# EAGLE library part TCC1014A(GIME)_HDR (library coco)
TCC1014A - http://www.GIMEchip.com/ TCC1014 & TCC1014A G.I.M.E./A.C.V.C. E.A.G.L.E. Library Part created by J&R - sales@gimechip.com <mailto:sales@gimechip.com?subject=TCC1014 & TCC1014A G.I.M.E./A.C.V.C. E.A.G.L.E. Library Part> 68-Pin PLCC, TCC1014 (VC2645QC) Graphics Interrupt Memory Enhancement Advanced Color Video Chip System Timing, Address Multiplex, Device Select, MMU A central component in the Color Computer 3 is the Advanced Color Video Chip (IC6). This chip provides refresh and address multiplexing for the RAM. It also provides all of the system timing and device selection. ACVC comprises the VDG (Video Display Generator) function which supports High-Resolution mode, in addition to all other modes included in the Color Computer 2. During High-Resolution mode, it generates 40 x 24 or 80 x 24 text screen, and 320 x 192 or 640 x 192 graphics screen. It is also designed to output two different video signals - composite video and analog RGB. ACVC can expand memory space up to 512K bytes. Having a built-in MMU (Memory Management Unit), it can support 2 banks of 256K-byte RAM, each with a 9-line address bus, even though the CPU possesses only 16 address lines. Controlling DRAMs is a fairly complex task. In the Color Computer 3, it is done by the TCC1014 (VC2645QC: ACVC). In addition to address multiplexing, RAS* and CAS* generation, WE0*, WE1* timing control, and refresh generation, the ACVC performs other tasks. It contains the Master Oscillator, the frequency of which is controlled by a 28.63636 MHz (PAL: 28.4750 MHz) crystal (X1). The Master Oscillator is divided by eight to give a 3.579545 MHz color reference signal to the Video Display Generator LOGIC and Composite Video Signal (NTSC version only). This reference signal is then divided by 4 (or 2) again to provide the 0.89 MHz (1.78 MHz) E and Q clock signals for the processor. In the PAL version, the Master Oscillator frequency is slightly shifted down than in the NTSC version for fitting with the PAL encoder circuit. The ACVC (IC6) also controls access to the memory, granting access to the processor during the high time of E (CPU portion) and access to the VDG LOGIC during the low time of E (Video portion). During each access, whether by the CPU or the Video, the ACVC must provide appropriately synchronized RAS* and CAS* signals, as well as the corresponding address signals, to the DRAMs. Note that the DRAM access time must be twice as fast as that required by the CPU alone in order to be able to respond to VDG accesses. In order for the ACVC chip to provide the appropriate addresses to the DRAMs, all 16 CPU address lines are input to the ACVC. It then multiplexes these into low order and high order addresses (Z0 through Z8, refer to MMU) which are sent to the DRAMs along with RAS* and CAS*. Another function of this section is to provide address decoding and device selection for the computer. S0, S1, and S2 are connected to IC9, a 74LS138, in order to provide appropriate signals to enable ROM selection, PIA selection, and various cartridge selection signals. Due to the nature of the ROMs and in order to prevent data bus contention, the ROMs are enabled only during the E portion of a read cycle. The memory area of the CoCo3 is from &00000 through &7FFFF (512K bytes). The Memory Management Unit (MMU) inside of the TCC1014, pins FFA0 through FFAF, selects A13 - A18 (actually A16 - A18). The ACVC is designed to output both composite video signal and analog RGB signal. ACVC also contains analog RGB output and a total of 64 color selections. Memory Management Unit (MMU) XFFA0 - XFFAF, 6 bits The 8-bit CPU in the Color Computer 3 can directly access only 64K bytes of memory with its 16 address lines (A0 - A15). The memory management unit (MMU) extends the address lines to 19 (A0 - A18). This allows the computer to address up to 512K bytes of memory ($00000 - $7FFFF). The MMU consists of a multiplexer and a 16 x 6-bit of RAM array. Each of the 6-bit elements in this RAM array is an MMU task register, and the task registers are used by the computer to determine the proper 8K segment of memory to address. These registers are divided into 2 sets, 8 registers per set. The TR bit of FF91 (task register select bit) determines which set is selected. The relationship between the data in the task register and the generated address is as follows: Bit D5 D4 D3 D2 D1 D0 Corresponding memory address A18 A17 A16 A15 A14 A13 When the CPU needs to access memory outside the standard I/O and control range (XFF00 - XFFFF), CPU address lines A13 - A15 and the TR bit determine the address of the task register which the MMU will access while SELECT is low. When the CPU writes data to the MMU, A0 - A3 determine the address of the task register to be written to when SELECT goes high. The data from the MMU is then used as the upper 6 address lines (A13 - A18) for memory access, according to the following: TR A15 A14 A13 (Address range) MMU location address 0 0 0 0 X0000 - X1FFF FFA0 0 0 0 1 X2000 - X3FFF FFA1 0 0 1 0 X4000 - X5FFF FFA2 0 0 1 1 X6000 - X7FFF FFA3 0 1 0 0 X8000 - X9FFF FFA4 0 1 0 1 XA000 - XBFFF FFA5 0 1 1 0 XC000 - XDFFF FFA6 0 1 1 1 XE000 - XFFFF FFA7 1 0 0 0 X0000 - X1FFF FFA8 1 0 0 1 X2000 - X3FFF FFA9 1 0 1 0 X4000 - X5FFF FFAA 1 0 1 1 X6000 - X7FFF FFAB 1 1 0 0 X8000 - X9FFF FFAC 1 1 0 1 XA000 - XBFFF FFAD 1 1 1 0 XC000 - XDFFF FFAE 1 1 1 1 XE000 - XFFFF FFAF It is important to note that, in order for the MMU to function, the CoCo bit of FF90 must be cleared, and the M/P bit of FF90 must be set. Prior to doing this, the desired addressing information for each segment must be loaded into the designated set of task registers.
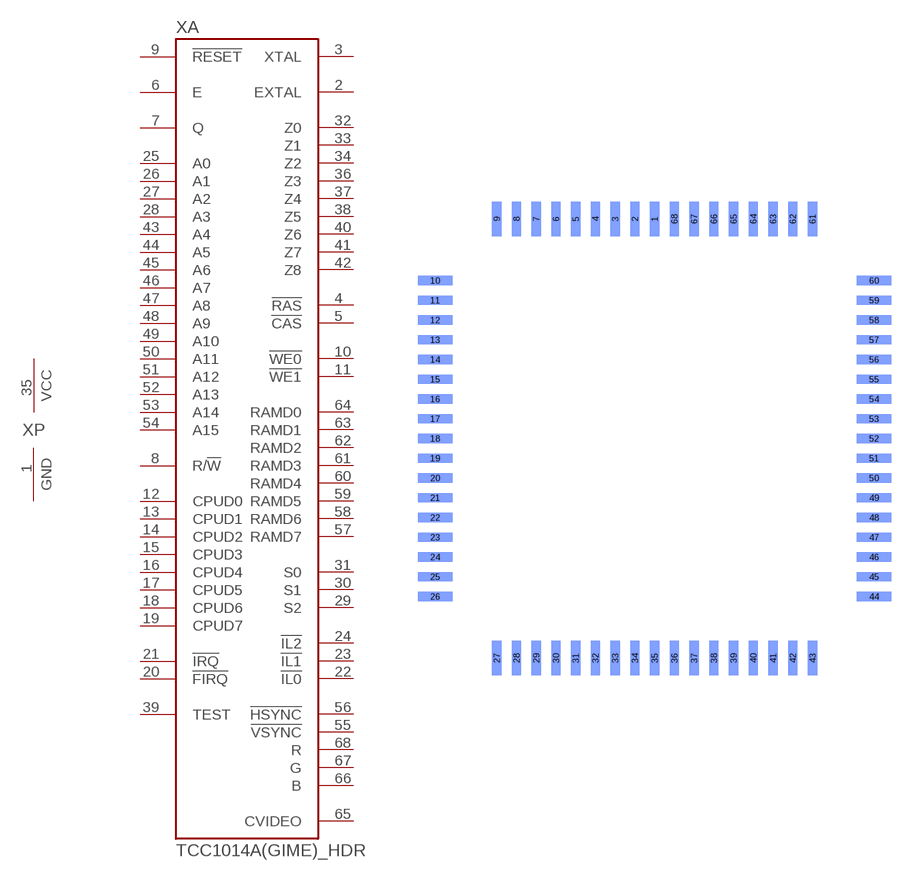
[diagram p2: symbol with the pads of PLCC68-HDR; footprint PLCC68-HDR]

Designator prefix X; gates A=TCC1014A_HDR P=PWR-GND

## TCC1014A(GIME)_HDR  [PLCC68-HDR]
1  P:GND  pwr
2  A:EXTAL  pas
3  A:XTAL  pas
4  A:!RAS  in
5  A:!CAS  in
6  A:E
7  A:Q
8  A:R/!W  out
9  A:!RESET
10  A:!WE0  in
11  A:!WE1  in
12  A:CPUD0
13  A:CPUD1
14  A:CPUD2
15  A:CPUD3
16  A:CPUD4
17  A:CPUD5
18  A:CPUD6
19  A:CPUD7
20  A:!FIRQ  oc
21  A:!IRQ  oc
22  A:!IL0  out
23  A:!IL1  out
24  A:!IL2  out
25  A:A0  in
26  A:A1  in
27  A:A2  in
28  A:A3  in
29  A:S2  in
30  A:S1  in
31  A:S0  in
32  A:Z0  in
33  A:Z1  in
34  A:Z2  in
35  P:VCC  pwr
36  A:Z3  in
37  A:Z4  in
38  A:Z5  in
39  A:TEST  pas
40  A:Z6  in
41  A:Z7  in
42  A:Z8  in
43  A:A4  in
44  A:A5  in
45  A:A6  in
46  A:A7  in
47  A:A8  in
48  A:A9  in
49  A:A10  in
50  A:A11  in
51  A:A12  in
52  A:A13  in
53  A:A14  in
54  A:A15  in
55  A:!VSYNC  in
56  A:!HSYNC  in
57  A:RAMD7
58  A:RAMD6
59  A:RAMD5
60  A:RAMD4
61  A:RAMD3
62  A:RAMD2
63  A:RAMD1
64  A:RAMD0
65  A:CVIDEO  in
66  A:B  in
67  A:G  in
68  A:R  in

## Footprint PLCC68-HDR (pad centres in mm)
Plastic J-Lead Chip Carrier
smd 0.6 x 2.2 bottom: 1 0,14.123; 2 -1.27,14.123; 3 -2.54,14.123; 4 -3.81,14.123; 5 -5.08,14.123; 6 -6.35,14.123; 7 -7.62,14.123; 8 -8.89,14.123; 9 -10.16,14.123; 27 -10.16,-14.123; 28 -8.89,-14.123; 29 -7.62,-14.123; 30 -6.35,-14.123; 31 -5.08,-14.123; 32 -3.81,-14.123; 33 -2.54,-14.123; 34 -1.27,-14.123; 35 0,-14.123; 36 1.27,-14.123; 37 2.54,-14.123; 38 3.81,-14.123; 39 5.08,-14.123; 40 6.35,-14.123; 41 7.62,-14.123; 42 8.89,-14.123; 43 10.16,-14.123; 61 10.16,14.123; 62 8.89,14.123; 63 7.62,14.123; 64 6.35,14.123; 65 5.08,14.123; 66 3.81,14.123; 67 2.54,14.123; 68 1.27,14.123
smd 2.2 x 0.6 bottom: 10 -14.123,10.16; 11 -14.123,8.89; 12 -14.123,7.62; 13 -14.123,6.35; 14 -14.123,5.08; 15 -14.123,3.81; 16 -14.123,2.54; 17 -14.123,1.27; 18 -14.123,0; 19 -14.123,-1.27; 20 -14.123,-2.54; 21 -14.123,-3.81; 22 -14.123,-5.08; 23 -14.123,-6.35; 24 -14.123,-7.62; 25 -14.123,-8.89; 26 -14.123,-10.16; 44 14.123,-10.16; 45 14.123,-8.89; 46 14.123,-7.62; 47 14.123,-6.35; 48 14.123,-5.08; 49 14.123,-3.81; 50 14.123,-2.54; 51 14.123,-1.27; 52 14.123,0; 53 14.123,1.27; 54 14.123,2.54; 55 14.123,3.81; 56 14.123,5.08; 57 14.123,6.35; 58 14.123,7.62; 59 14.123,8.89; 60 14.123,10.16